# EAGLE library part PEC11D (library 01jim)
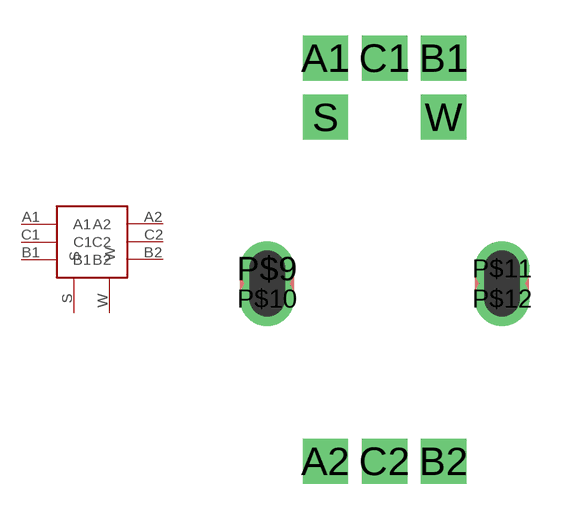
[diagram p4: symbol with the pads of PEC11D_TH; footprint PEC11D_TH]

Designator prefix -

## PEC11DPEC11D  [PEC11D_TH]
A1  A1
A2  A2
B1  B1
B2  B2
C1  C1
C2  C2
S  S
W  W

## Footprint PEC11D_TH (pad centres in mm)
drill 1.27 pad 1.524 square: A1 -2.489,9.5; A2 -2.489,-7.493; B1 2.489,9.5; B2 2.489,-7.493; C1 0,9.5; C2 0,-7.493; S -2.489,7.01; W 2.489,7.01
drill 1.524: P$9 -4.953,0.635; P$10 -4.953,-0.635; P$11 4.953,0.635; P$12 4.953,-0.635